# Altium footprint library OpenECADLib-fp-0021.PcbLib: 1 footprints
Each footprint in its own frame and in the unit in brackets; x right, y up, seen from the top. Pads: shape width x height; smd on the part's side, far side on the other; paste and mask are expansions set on the pad; w line width, h text height; cw(c..) or ccw(c..) is an arc to the next point about the centre after c.
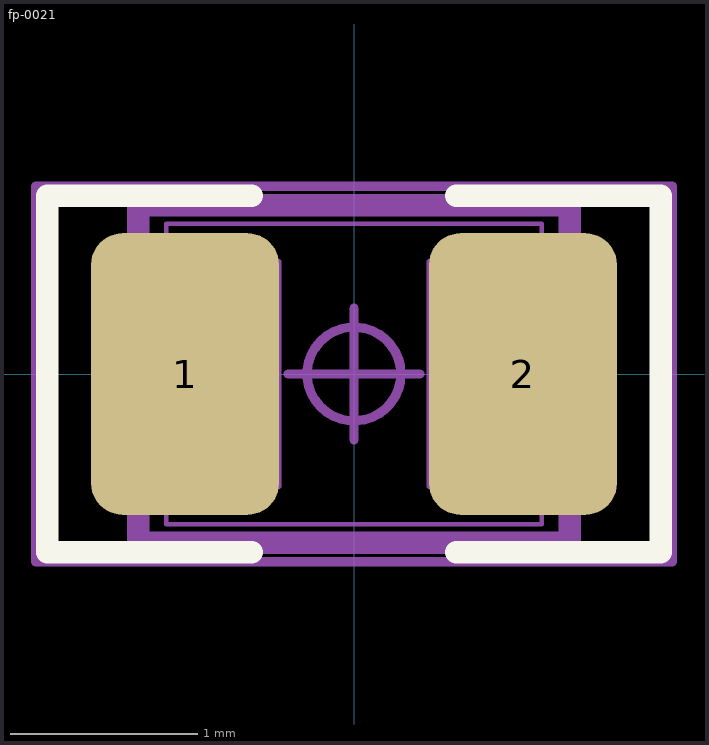
[diagram p0: the footprint, top view; thin cyan lines are the x and y axes]

## fp-0021 [mm] "INDC200X120X110L60N, Inductor, Chip; 2.00 mm L X 1.20 mm W X 1.10 mm H body"
height 1.1
pads (2):
  rrect33% 1x1.5 smd: 1(-0.9,0) 2(0.9,0)
Top Overlay:
  lines w0.12: -0.545,-0.95 -1.635,-0.95 -1.635,0.95 -0.545,0.95 ; 0.545,-0.95 1.635,-0.95 1.635,0.95 0.545,0.95
Top Assembly:
  lines w0.12: -1.15,-0.9 1.15,-0.9 1.15,0.9 -1.15,0.9 -1.15,-0.9
Top Courtyard:
  circle w0.05: c0,0 r0.25
  lines w0.05: -0.35,0 0.35,0 ; 0,-0.35 0,0.35 ; -1.695,-1 1.695,-1 1.695,1 -1.695,1 -1.695,-1
Top Component Outline (Mech15):
  lines w0.025: -1,-0.8 1,-0.8 1,0.8 -1,0.8 -1,-0.8 ; -1,-0.6 -1,0.6 -0.4,0.6 -0.4,-0.6 -1,-0.6 ; 0.4,-0.6 1,-0.6 1,0.6 0.4,0.6 0.4,-0.6
Top Designator:
  text ".Designator" at -2.477,-0.209 h1
3D body "3d-0021.step": height 1.01, standoff 0, extent -1,-0.8 1,0.8